# EAGLE library part BHR-40-VSG-SMT (library lib_ysk)
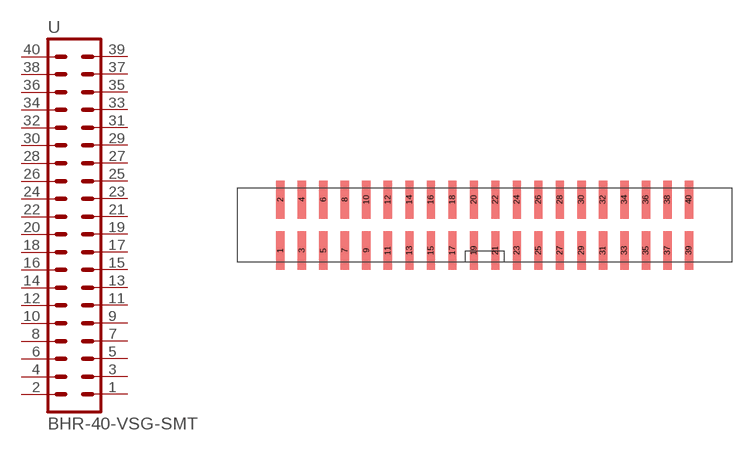
[diagram p12: symbol with the pads of BHR-40-VSG-SMT; footprint BHR-40-VSG-SMT]

Designator prefix -

## BHR-40-VSG-SMT  [BHR-40-VSG-SMT]
1  1  pas
2  2  pas
3  3  pas
4  4  pas
5  5  pas
6  6  pas
7  7  pas
8  8  pas
9  9  pas
10  10  pas
11  11  pas
12  12  pas
13  13  pas
14  14  pas
15  15  pas
16  16  pas
17  17  pas
18  18  pas
19  19  pas
20  20  pas
21  21  pas
22  22  pas
23  23  pas
24  24  pas
25  25  pas
26  26  pas
27  27  pas
28  28  pas
29  29  pas
30  30  pas
31  31  pas
32  32  pas
33  33  pas
34  34  pas
35  35  pas
36  36  pas
37  37  pas
38  38  pas
39  39  pas
40  40  pas

## Footprint BHR-40-VSG-SMT (pad centres in mm)
smd 1 x 4.5: 1 -24.13,-3; 2 -24.13,3; 3 -21.59,-3; 4 -21.59,3; 5 -19.05,-3; 6 -19.05,3; 7 -16.51,-3; 8 -16.51,3; 9 -13.97,-3; 10 -13.97,3; 11 -11.43,-3; 12 -11.43,3; 13 -8.89,-3; 14 -8.89,3; 15 -6.35,-3; 16 -6.35,3; 17 -3.81,-3; 18 -3.81,3; 19 -1.27,-3; 20 -1.27,3; 21 1.27,-3; 22 1.27,3; 23 3.81,-3; 24 3.81,3; 25 6.35,-3; 26 6.35,3; 27 8.89,-3; 28 8.89,3; 29 11.43,-3; 30 11.43,3; 31 13.97,-3; 32 13.97,3; 33 16.51,-3; 34 16.51,3; 35 19.05,-3; 36 19.05,3; 37 21.59,-3; 38 21.59,3; 39 24.13,-3; 40 24.13,3